# Altium footprint library SnapEDApcb.PcbLib: 1 footprints
Each footprint in its own frame and in the unit in brackets; x right, y up, seen from the top. Pads: shape width x height; smd on the part's side, far side on the other; paste and mask are expansions set on the pad; w line width, h text height; cw(c..) or ccw(c..) is an arc to the next point about the centre after c.
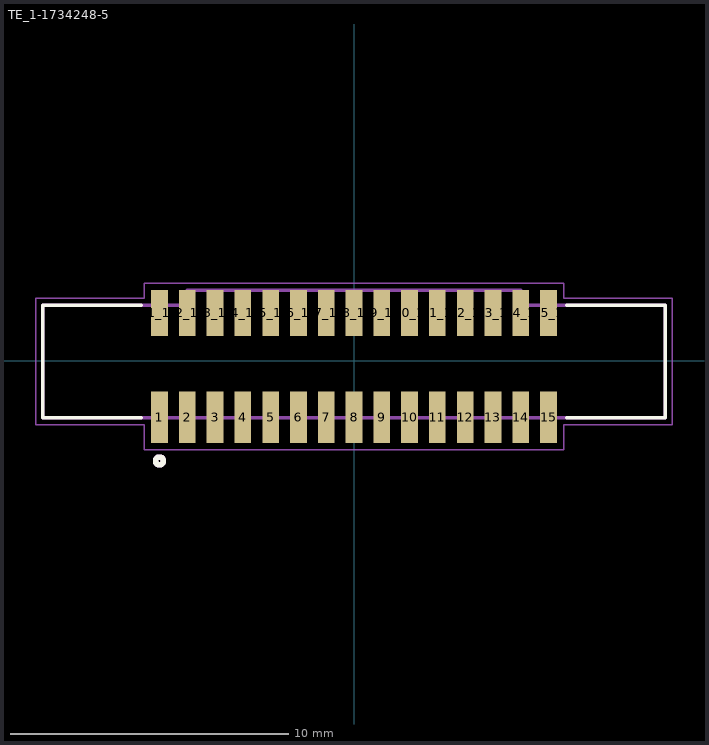
[diagram p0: the footprint, top view; thin cyan lines are the x and y axes]

## TE_1-1734248-5 [mm]
pads (30):
  rect 0.6x1.85 smd: 1(-7,-2.025) 2(-6,-2.025) 3(-5,-2.025) 4(-4,-2.025) 5(-3,-2.025) 6(-2,-2.025) 7(-1,-2.025) 8(0,-2.025) 9(1,-2.025) 10(2,-2.025) 11(3,-2.025) 12(4,-2.025) 13(5,-2.025) 14(6,-2.025) 15(7,-2.025)
  rect 0.6x1.65 smd: 1_1(-7,1.725) 2_1(-6,1.725) 3_1(-5,1.725) 4_1(-4,1.725) 5_1(-3,1.725) 6_1(-2,1.725) 7_1(-1,1.725) 8_1(0,1.725) 9_1(1,1.725) 10_1(2,1.725) 11_1(3,1.725) 12_1(4,1.725) 13_1(5,1.725) 14_1(6,1.725) 15_1(7,1.725)
Top Overlay:
  circle w0.2: c-7,-3.6 r0.141
  lines w0.127: -7.65,-2.05 -11.2,-2.05 -11.2,2 -7.65,2 ; 7.65,-2.05 11.2,-2.05 11.2,2 7.65,2
Mechanical 13:
  circle w0.2: c-7,-3.6 r0.141
  lines w0.127: -11.2,-2.05 -11.2,2 -6,2 -6,2.55 6,2.55 6,2 11.2,2 11.2,-2.05 -11.2,-2.05
Mechanical 15:
  lines w0.05: -11.45,-2.3 -11.45,2.25 -7.55,2.25 -7.55,2.8 7.55,2.8 7.55,2.25 11.45,2.25 11.45,-2.3 7.55,-2.3 7.55,-3.2 -7.55,-3.2 -7.55,-2.3 -11.45,-2.3